# Altium footprint library SM_SO-08-Wide.PcbLib: 1 footprints
Each footprint in its own frame and in the unit in brackets; x right, y up, seen from the top. Pads: shape width x height; smd on the part's side, far side on the other; paste and mask are expansions set on the pad; w line width, h text height; cw(c..) or ccw(c..) is an arc to the next point about the centre after c.
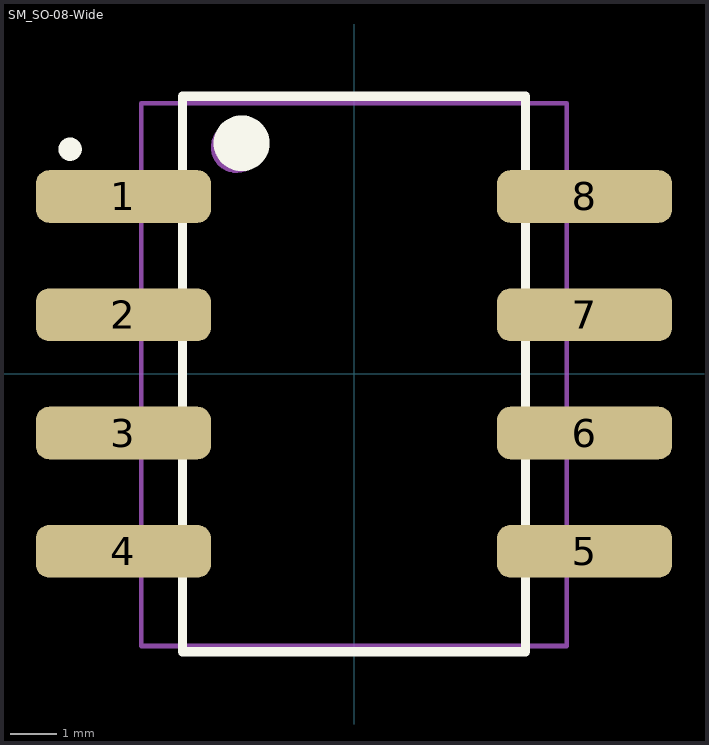
[diagram p0: the footprint, top view; thin cyan lines are the x and y axes]

## SM_SO-08-Wide [mil] "8-pin DIP Gull-Wing SMT, 0.1\" pitch, 0.35\" width"
height 130
pads (8):
  rrect50% 148x44.49 smd: 1(-195,150) 2(-195,50) 3(-195,-50) 4(-195,-150) 5(195,-150) 6(195,-50) 7(195,50) 8(195,150)
Top Overlay:
  circle w23.62: c-95,195 r11.81
  circle w9.84: c-240,190 r4.92
  lines w7.87: -145,-235 145,-235 145,234.84 -145,234.84 -145,-235
Mechanical 13:
  circle w3.94: c-99.41,191.54 r19.68
  lines w3.94: -180,-230 180,-230 180,228.94 -180,228.94 -180,-230